# Altium footprint library MSTBA 2,5 x-G-5,08.PcbLib: 1 footprints
Each footprint in its own frame and in the unit in brackets; x right, y up, seen from the top. Pads: shape width x height; smd on the part's side, far side on the other; paste and mask are expansions set on the pad; w line width, h text height; cw(c..) or ccw(c..) is an arc to the next point about the centre after c.
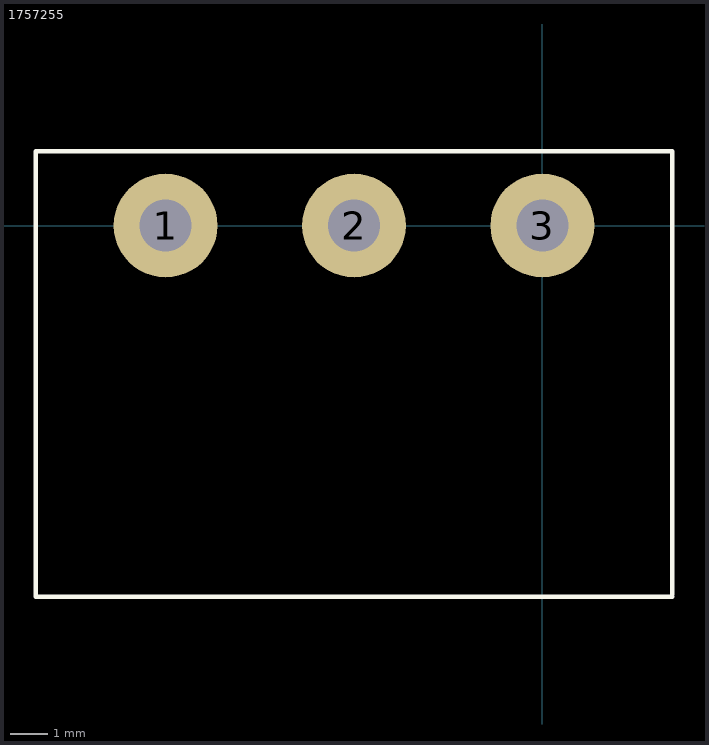
[diagram p0: the footprint, top view; thin cyan lines are the x and y axes]

## 1757255 [mm]
pads (3):
  round 2.8 hole 1.4: 1(-10.16,0) 2(-5.08,0) 3(0,0)
Top Overlay:
  lines w0.127: 3.5,-10.008 -13.66,-10.008 -13.66,2 3.5,2 3.5,-9.957
3D body: height 8.6, standoff -3.5, extent -13.7,-10.008 3.54,1.995
3D body: height 15.3, standoff 0.3, extent -12.7,-19.994 2.54,-1.794